# Altium footprint library BGA8C50P2X4_89X189X50.PcbLib: 1 footprints
Each footprint in its own frame and in the unit in brackets; x right, y up, seen from the top. Pads: shape width x height; smd on the part's side, far side on the other; paste and mask are expansions set on the pad; w line width, h text height; cw(c..) or ccw(c..) is an arc to the next point about the centre after c.
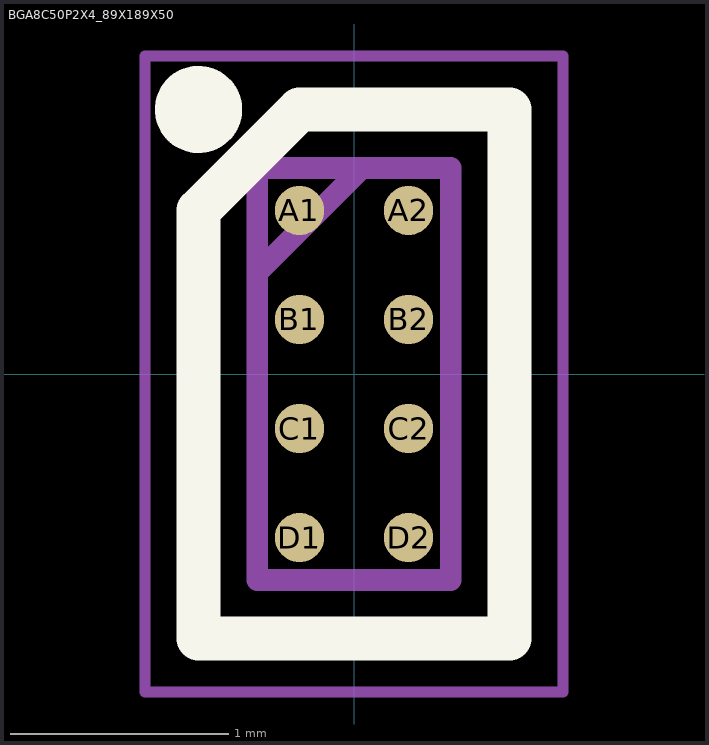
[diagram p0: the footprint, top view; thin cyan lines are the x and y axes]

## BGA8C50P2X4_89X189X50 [mm]
pads (8):
  round 0.226 smd: A1(-0.25,0.75) A2(0.25,0.75) B1(-0.25,0.25) B2(0.25,0.25) C1(-0.25,-0.25) C2(0.25,-0.25) D1(-0.25,-0.75) D2(0.25,-0.75)
Top Overlay:
  circle w0.2: c-0.713,1.213 r0.1
  lines w0.2: -0.713,-1.213 0.713,-1.213 0.713,1.213 -0.25,1.213 -0.713,0.75 -0.713,-1.213
Mechanical 15:
  lines w0.1: -0.444,0.464 0.036,0.944 ; -0.444,-0.944 0.444,-0.944 0.444,0.944 -0.444,0.944 -0.444,-0.944
Mechanical 20:
  lines w0.05: -0.959,-1.459 0.959,-1.459 0.959,1.459 -0.959,1.459 -0.959,-1.459